# EAGLE library part SW_DIP-4 (library ds_passive)
DIP SWITCH
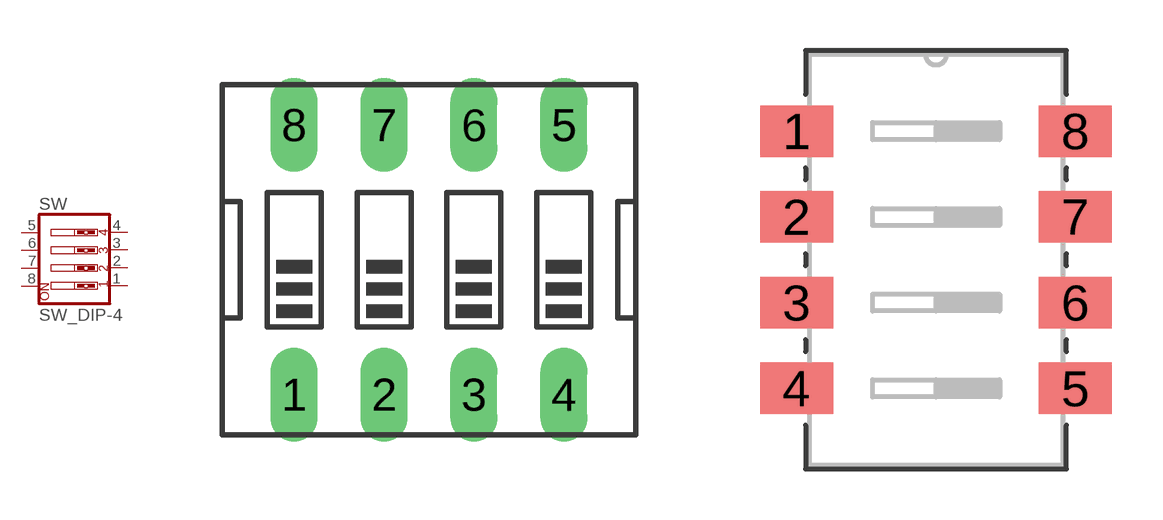
[diagram p1: symbol with the pads of EDG-04; footprints EDG-04, SWSO8_325X138P100]

Designator prefix SW

## SW_DIP-4 (DESCRIPTION: 4 Positions SPST 24V 25mA Red 3000 Times Flat Toggle, Raised Style Plugin DIP Switches ROHS; LCSC_PART: C92645; VALUE: DS-04RP)  [EDG-04]
1  1  pas
2  2  pas
3  3  pas
4  4  pas
5  5  pas
6  6  pas
7  7  pas
8  8  pas

## SW_DIP-4-SDA04H1SBD (DESCRIPTION: 4 Positions SPST 24V 25mA Black Flat Toggle, Raised Style SMD-8P,7.5x12.1mm DIP Switches ROHS; LCSC_PART: C221954; VALUE: SDA04H1SBD)  [SWSO8_325X138P100]
Pads as for EDG-04

## Footprint EDG-04 (pad centres in mm)
DIP SWITCH
drill 0.813 long: 1 -3.81,-3.81; 2 -1.27,-3.81; 3 1.27,-3.81; 4 3.81,-3.81; 5 3.81,3.81; 6 1.27,3.81; 7 -1.27,3.81; 8 -3.81,3.81

## Footprint SWSO8_325X138P100 (pad centres in mm)
smd 2.159 x 1.524: 1 -4.128,3.81; 2 -4.128,1.27; 3 -4.128,-1.27; 4 -4.128,-3.81; 5 4.128,-3.81; 6 4.128,-1.27; 7 4.128,1.27; 8 4.128,3.81